# EAGLE library part OPA2335 (library Components)
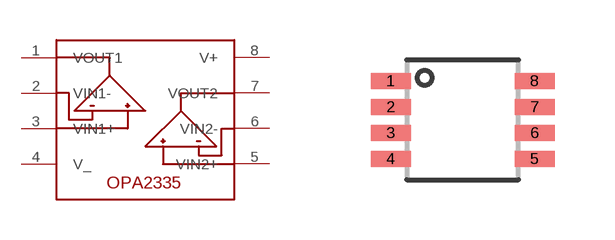
[diagram p4: symbol with the pads of SSOP-8; footprint SSOP-8]

Designator prefix -

## OPA2335  [SSOP-8]
1  VOUT1
2  VIN1-
3  VIN1+
4  V_
5  VIN2+
6  VIN2-
7  VOUT2
8  V+

## Footprint SSOP-8 (pad centres in mm)
smd 1 x 0.4: 1 -1.8,0.975; 2 -1.8,0.325; 3 -1.8,-0.325; 4 -1.8,-0.975; 5 1.8,-0.975; 6 1.8,-0.325; 7 1.8,0.325; 8 1.8,0.975